# Altium footprint library SI941C.PcbLib: 31 footprints (part 1 of 2)
Each footprint in its own frame and in the unit in brackets; x right, y up, seen from the top. Pads: shape width x height; smd on the part's side, far side on the other; paste and mask are expansions set on the pad; w line width, h text height; cw(c..) or ccw(c..) is an arc to the next point about the centre after c.
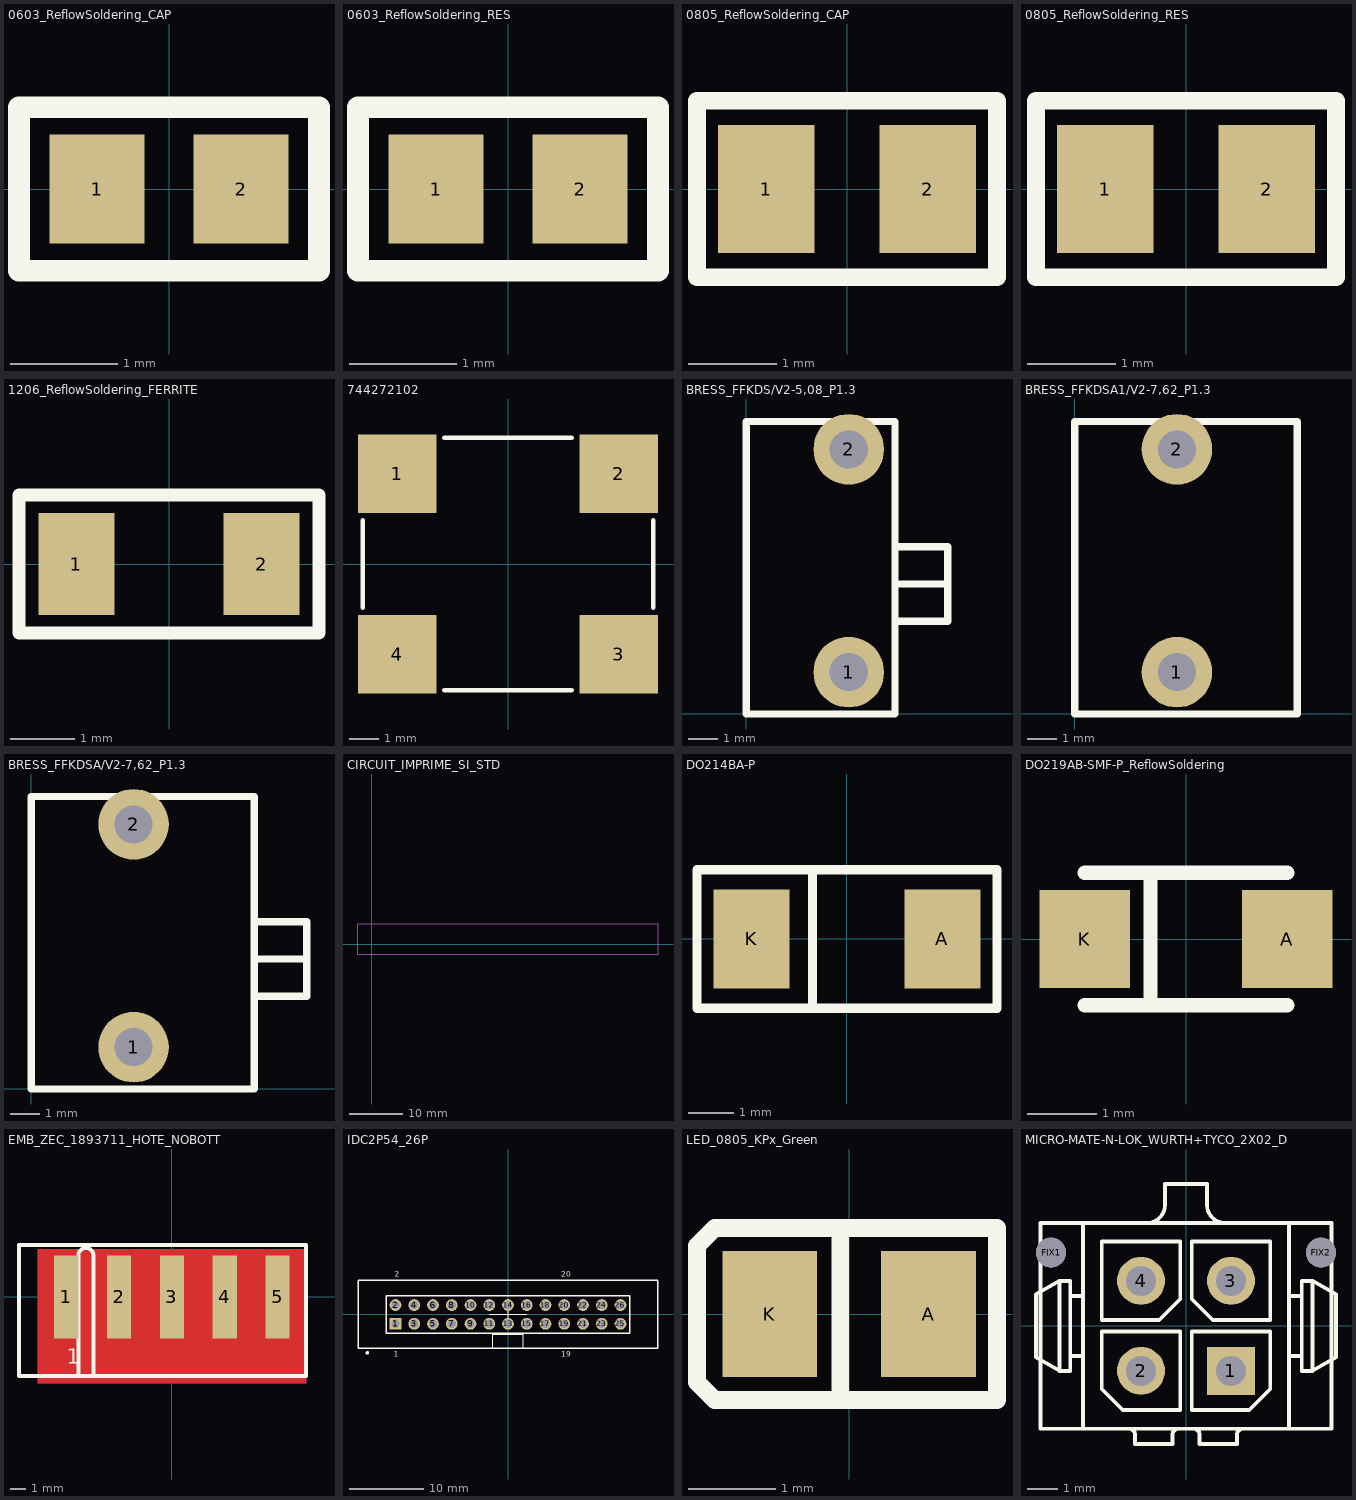
[diagram p0: the footprints below, top view; thin cyan lines are the x and y axes]

## 0603_ReflowSoldering_CAP [mil]
height 98.43
pads (2):
  rect 35x40 smd paste-5: 1(-26.4,0) 2(26.4,0)
Top Overlay:
  lines w8: -55,-30 -55,30 55,30 55,-30 -55,-30
3D body "User Library-CAPC1608X09.STEP": height 35.43, standoff 0, extent -31.49,-15.74 31.5,15.75

## 0603_ReflowSoldering_RES [mil]
height 134.65
pads (2):
  rect 35x40 smd paste-5: 1(-26.4,0) 2(26.4,0)
Top Overlay:
  lines w8: -55,-30 -55,30 55,30 55,-30 -55,-30
3D body "RESC1608X84N.STEP": height 21.65, standoff 0, extent -31.49,-15.75 31.5,15.75

## 0805_ReflowSoldering_CAP [mil]
height 98.43
pads (2):
  rect 43x57 smd paste-3: 1(-36,0) 2(36,0)
Top Overlay:
  lines w8: -66.93,-39.37 66.93,-39.37 66.93,39.37 -66.93,39.37 -66.93,-39.37
3D body "User Library-CAPC2013X10.STEP": height 39.37, standoff 0, extent -39.36,-24.6 39.38,24.61

## 0805_ReflowSoldering_RES [mil]
pads (2):
  rect 43x57 smd paste-3: 1(-36,0) 2(36,0)
Top Overlay:
  lines w8: -66.93,-39.37 66.93,-39.37 66.93,39.37 -66.93,39.37 -66.93,-39.37
3D body: height 30, standoff 0, extent -87.5,-3.12 -43.75,53.12
3D body: height 30, standoff 0, extent -90.62,-6.25 -31.25,53.12
3D body: height 30, standoff 0, extent -90.62,0 -50,53.12
3D body "SW3dPS-0805 SMD Resistor.STEP": height 30.79, standoff 0, extent -39.37,-24.6 39.37,24.61

## 1206_ReflowSoldering_FERRITE [mil]
height 98.43
pads (2):
  rect 47x63 smd paste-3: 1(-57.09,0) 2(57.09,0)
Top Overlay:
  lines w8: -92.5,-42.5 -92.5,42.5 92.5,42.5 92.5,-42.5 -92.5,-42.5
3D body "SW3dPS-1206 SMD Resistor.STEP": height 39.45, standoff 0, extent -62.99,-31.5 62.99,31.5

## 744272102 [mm] "IND_FERRITE_WE-SL5_2X1000UH"
height 6.5
pads (4):
  rect 2.7x2.7 smd mask+0.064: 1(-3.81,3.11) 2(3.81,3.11) 3(3.81,-3.11) 4(-3.81,-3.11)
Top Overlay:
  lines w0.152: -5,-1.5 -5,1.5 ; -2.2,-4.35 2.2,-4.35 ; -2.2,4.35 2.2,4.35 ; 5,-1.5 5,1.5
3D body "STEP-744272102-rev1.stp": height 6.01, standoff 0.01, extent -5.001,-4.35 5,4.35

## BRESS_FFKDS/V2-5,08_P1.3 [mm]
pads (2):
  round 2.413 hole 1.3: 1(3.5,1.43) 2(3.5,9.05)
Top Overlay:
  lines w0.254: 5.08,3.175 6.88,3.175 6.88,4.445 ; 5.08,5.715 6.88,5.715 6.88,4.445 ; 6.88,4.445 5.08,4.445 6.88,4.445 ; 0,0 0,10 5.08,10 5.08,0 0,0
3D body "1790348.stp": height 15.8, standoff -3.4, extent 0,0 6.88,10

## BRESS_FFKDSA1/V2-7,62_P1.3 [mm]
pads (2):
  round 2.413 hole 1.3: 1(3.5,1.43) 2(3.5,9.05)
Top Overlay:
  lines w0.254: 0,0 7.62,0 7.62,10 0,10 0,0
3D body "1790487.stp": height 15.85, standoff -3.35, extent 0,0 7.62,10

## BRESS_FFKDSA/V2-7,62_P1.3 [mm]
pads (2):
  round 2.413 hole 1.3: 1(3.5,1.43) 2(3.5,9.05)
Top Overlay:
  lines w0.254: 7.62,3.175 9.42,3.175 9.42,4.445 ; 7.62,5.715 9.42,5.715 9.42,4.445 ; 9.42,4.445 7.62,4.445 9.42,4.445 ; 0,0 0,10 7.62,10 7.62,0 0,0
3D body "1790377.stp": height 15.8, standoff -3.4, extent 0,0 9.42,10

## CIRCUIT_IMPRIME_SI_STD [mm]
Top Layer:
  text ".refSI1" at -0.254,-0.254 h2.79
Mechanical 7:
  lines w0.203: -2.54,-1.905 53.34,-1.905 53.34,3.81 -2.54,3.81 -2.54,-1.905

## DO214BA-P [mil]
height 98.43
pads (2):
  rect 66x86 smd paste-3: A(82.68,0) K(-82.68,0)
Top Overlay:
  lines w8: -30,-60 -30,60 ; -130,-60 -130,60 130,60 130,-60 -130,-60
3D body "SW3dPS-DO-214BA.STEP": height 114.37, standoff -1.97, extent -103.34,-51.18 103.35,51.18

## DO219AB-SMF-P_ReflowSoldering [mm]
pads (2):
  rect 1.3x1.4 smd paste-0.076: A(1.45,0) K(-1.45,0)
Top Overlay:
  lines w0.203: -1.45,-0.95 1.45,-0.95 ; -1.45,0.95 1.45,0.95 ; -0.508,-0.95 -0.508,0.95
3D body: height 0.99, standoff 0.95, extent -0.762,-0.889 -0.508,0.889
3D body: height 0.98, standoff 0, extent -1.45,-0.95 1.45,0.95

## EMB_ZEC_1893711_HOTE_NOBOTT [mm]
pads (5):
  rect 1.6x5.5 smd paste-25.4: 1(-7,0) 2(-3.5,0) 3(0,0) 4(3.5,0) 5(7,0)
Top Layer:
  pour cut-out: -8.89,3.175 8.89,3.175 8.89,-5.715 -8.89,-5.715
Bottom Layer:
  pour cut-out: -8.89,3.175 8.89,3.175 8.89,-5.715 -8.89,-5.715
Top Overlay:
  lines w0.254: -6.2,-5.25 -6.2,2.746 cw(c-5.7,2.746) -5.2,2.746 -5.2,-5.25 ; -10.136,-5.25 8.89,-5.25 8.89,3.45 -10.136,3.45 -10.136,-5.25
  text "1" at -6.985,-4.445 h1
Top Solder:
  rectangle: -8.89,-5.715 8.89,3.175
Bottom Solder:
  rectangle: -8.89,-5.715 8.89,3.175

## IDC2P54_26P [mm] "Connector; Header; 13x2 Position"
pads (26):
  rect 1.6x1.6 hole 1.1 mask+0.051: 1(-15.24,-1.27)
  round 1.6 hole 1.1 mask+0.051: 2(-15.24,1.27) 3(-12.7,-1.27) 4(-12.7,1.27) 5(-10.16,-1.27) 6(-10.16,1.27) 7(-7.62,-1.27) 8(-7.62,1.27) 9(-5.08,-1.27) 10(-5.08,1.27) 11(-2.54,-1.27) 12(-2.54,1.27) 13(0,-1.27) 14(0,1.27) 15(2.54,-1.27) 16(2.54,1.27) 17(5.08,-1.27) 18(5.08,1.27) 19(7.62,-1.27) 20(7.62,1.27) 21(10.16,-1.27) 22(10.16,1.27) 23(12.7,-1.27) 24(12.7,1.27) 25(15.24,-1.27) 26(15.24,1.27)
Top Overlay:
  circle w0.25: c-19.048,-5.207 r0.125
  lines w0.025: -2.54,0 2.54,0 ; 0,-1.27 0,1.016
  lines w0.152: -2.05,-4.6 -2.05,-2.7 2.05,-2.7 2.05,-4.6 -2.05,-4.6
  lines w0.2: -20.32,-4.6 20.32,-4.6 20.32,4.6 -20.32,4.6 -20.32,-4.6 ; -16.51,-2.54 16.51,-2.54 16.51,2.54 -16.51,2.54 -16.51,-2.54
  text "20" at 7.239,5.08 h0.75
  text "2" at -15.367,5.08 h0.75
  text "19" at 7.239,-5.715 h0.75
  text "1" at -15.494,-5.715 h0.75
Mechanical 10:
  text "2" at -17.78,0.762 h1.27
  text "1" at -17.78,-1.778 h1.27
  text "26" at 16.764,0.762 h1.27
  text "25" at 16.764,-1.778 h1.27
3D body "STEP-61202621621-rev1.stp": height 8.86, standoff -3.24, extent -20.34,-4.552 20.34,4.548

## LED_0805_KPx_Green [mil]
pads (2):
  rect 43x57 smd paste-3: A(36,0) K(-36,0)
Top Overlay:
  lines w8: -69,30 -69,-31 -61,-39 67,-39 67,39 -61,39 -69,31 ; -4,-39 -4,39
3D body "SW3dPS-led805.STEP": height 43.31, standoff -0.5, extent -40,-25 40,25

## MICRO-MATE-N-LOK_WURTH+TYCO_2X02_D [mm]
pads (6):
  rect 1.6x1.6 hole 1: 1(1.5,-1.5)
  round 1.6 hole 1: 2(-1.5,-1.5) 3(1.5,1.5) 4(-1.5,1.5)
  round 1 hole 1 unplated: FIX1(-4.5,2.44) FIX2(4.5,2.44)
Top Overlay:
  lines w0.127: -3.86,-1 -3.43,-1 ; -3.86,1 -3.43,1 ; -1.9,-3.43 cw(c-1.9,-3.63) -1.7,-3.63 -1.7,-3.94 -0.45,-3.94 -0.45,-3.63 cw(c-0.25,-3.63) -0.25,-3.43 ; -1.3,3.43 ccw(c-1.3,4.03) -0.7,4.03 -0.7,4.73 0.7,4.73 0.7,4.03 ccw(c1.3,4.03) 1.3,3.43 ; 0.25,-3.43 cw(c0.25,-3.63) 0.45,-3.63 0.45,-3.94 1.7,-3.94 1.7,-3.63 cw(c1.9,-3.63) 1.9,-3.43 ; 3.43,-1 3.86,-1 ; 3.43,1 3.86,1 ; -4.22,-1.5 -4.22,1.5 ; -4.22,-1.5 -5,-1.05 -5,1.05 -4.22,1.5 ; -4.22,-1.5 -3.86,-1.5 -3.86,1.5 -4.22,1.5 ; 4.22,-1.5 3.86,-1.5 3.86,1.5 4.22,1.5 ; 4.22,-1.5 5,-1.05 5,1.05 4.22,1.5 ; 4.22,-1.5 4.22,1.5 ; -4.85,-3.43 -4.85,3.43 4.85,3.43 4.85,-3.43 -4.85,-3.43 ; -3.43,-3.43 3.43,-3.43 3.43,3.43 -3.43,3.43 -3.43,-3.43 ; -2.81,-2.11 -2.11,-2.81 -0.19,-2.81 -0.19,-0.19 -2.81,-0.19 -2.81,-2.11 ; -2.81,0.19 -2.81,2.81 -0.19,2.81 -0.19,0.89 -0.89,0.19 -2.81,0.19 ; 0.19,-2.81 0.19,-0.19 2.81,-0.19 2.81,-2.11 2.11,-2.81 0.19,-2.81 ; 0.19,0.89 0.19,2.81 2.81,2.81 2.81,0.19 0.89,0.19 0.19,0.89
3D body "c-3-794630-4-g-3d.stp": height 9.3, standoff -3.12, extent -5,-3.94 5,4.73